# EAGLE library part DSUB9V2 (library DSDEagleLibrary)
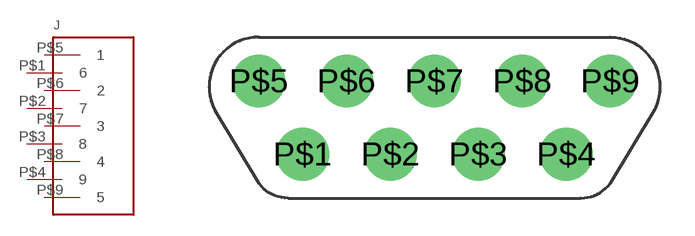
[diagram p36: symbol with the pads of DSUB_9W4; footprint DSUB_9W4]

Designator prefix J

## DSUB9V2  [DSUB_9W4]
P$1  6
P$2  7
P$3  8
P$4  9
P$5  1
P$6  2
P$7  3
P$8  4
P$9  5

## Footprint DSUB_9W4 (pad centres in mm)
drill 1.143 pad 2.286: P$1 0,0; P$2 3.81,0; P$3 7.62,0; P$4 11.43,0; P$5 -1.905,3.175; P$6 1.905,3.175; P$7 5.715,3.175; P$8 9.525,3.175; P$9 13.335,3.175